# Altium integrated library GPS.IntLib: 1 symbol
Pins are listed as number, name and electrical type; pins without a type are passive.

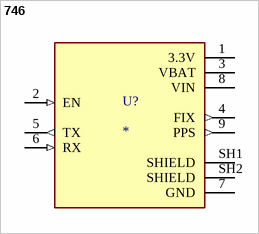
[diagram p0: symbol 746]

## 746
designator U?
Ultimate GPS Breakout, 66 channel, 10 Hz updates, 5 V, -165 dBm, MTK3339 Chipset | Adafruit Industries 746; MP: 746; SnapEDA_Link: https://www.snapeda.com/parts/746/Adafruit+Industries/view-part/?ref=snap; Package: NON STANDARD-11 Adafruit; Value: *; MF: Adafruit Industries; Check_prices: https://www.snapeda.com/parts/746/Adafruit+Industries/view-part/?ref=eda
footprint XCVR_746
pins: 1 3.3V (power), 2 EN (in), 3 VBAT (power), 4 FIX (out), 5 TX (out), 6 RX (in), 7 GND (power), 8 VIN (power), 9 PPS (out), SH1 SHIELD, SH2 SHIELD